# Altium footprint library 2020-06-19_14-54-17.PcbLib: 3 footprints
Each footprint in its own frame and in the unit in brackets; x right, y up, seen from the top. Pads: shape width x height; smd on the part's side, far side on the other; paste and mask are expansions set on the pad; w line width, h text height; cw(c..) or ccw(c..) is an arc to the next point about the centre after c.
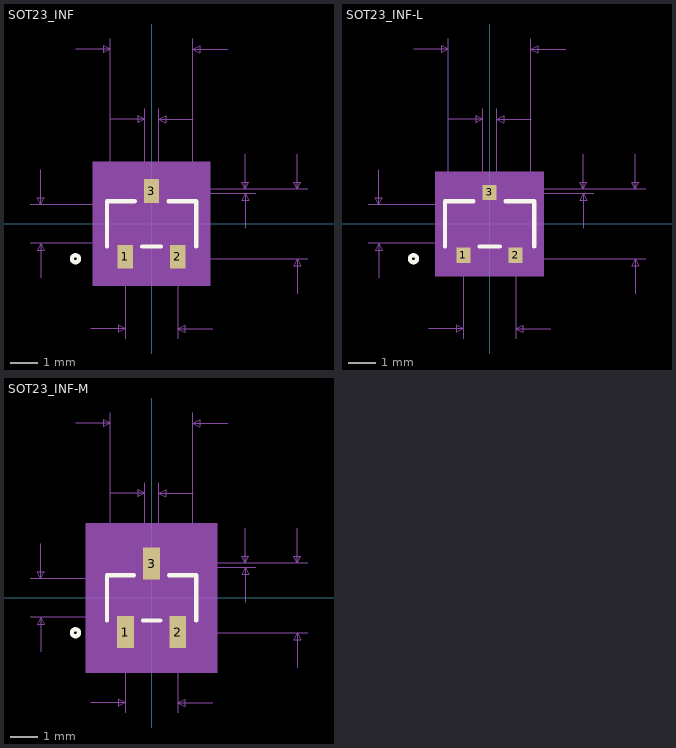
[diagram p0: the footprints below, top view; thin cyan lines are the x and y axes]

## SOT23_INF [mil]
pads (3):
  rect 22x34 smd paste+0 mask+0: 1(-37.5,-47) 2(37.5,-47) 3(0,47)
Top Overlay:
  circle w6: c-109,-50 r5
  lines w6: -64,-32.5 -64,32.5 -24.1,32.5 ; -13.4,-32.5 13.4,-32.5 ; 24.1,32.5 64,32.5 64,-32.5
Mechanical 5:
  region: -84,89 84,89 84,-89 -84,-89
Mechanical 7:
  lines w1: -174,-27.5 0,-27.5 ; -174,27.5 0,27.5 ; -159,-77.5 -159,-27.5 ; -159,77.5 -159,27.5 ; -109,250 -59,250 ; -87.5,-150 -37.5,-150 ; -60,150 -10,150 ; -59,27.5 -59,265 ; -37.5,-165 -37.5,-50 ; -10,50 -10,165 ; 0,-50 224,-50 ; 0,44 149,44 ; 10,50 10,165 ; 37.5,-165 37.5,-50 ; 59,27.5 59,265 ; 60,150 10,150 ; 87.5,-150 37.5,-150 ; 109,250 59,250 ; 134,-6 134,44 ; 134,100 134,50 ; 149,50 0,50 224,50 ; 209,-100 209,-50 ; 209,100 209,50 ; -159,-27.5 -164,-37.5 -154,-37.5 -159,-27.5 ; -159,27.5 -164,37.5 -154,37.5 -159,27.5 ; -59,250 -69,255 -69,245 -59,250 ; -37.5,-150 -47.5,-145 -47.5,-155 -37.5,-150 ; -10,150 -20,155 -20,145 -10,150 ; 10,150 20,155 20,145 10,150 ; 37.5,-150 47.5,-145 47.5,-155 37.5,-150 ; 59,250 69,255 69,245 59,250 ; 134,44 129,34 139,34 134,44 ; 134,50 129,60 139,60 134,50 ; 209,-50 204,-60 214,-60 209,-50 ; 209,50 204,60 214,60 209,50
  text "Top Padstyle: RX22Y34D0T" at -300,-314 h50
  text "Bottom Padstyle: RX22Y34D0T" at -337.5,-389 h50
  text "Alt 1 Padstyle: OX60Y90D30P" at -337.5,-464 h50
  text "Alt 2 Padstyle: OX90Y60D30P" at -337.5,-539 h50
  text "0.1in/2.54mm" at 229,-12.5 h25
  text "0.006in/0.152mm" at 154,34.5 h25
  text "0.075in/1.905mm" at -93.75,-195 h25
  text "0.02in/0.508mm" at -87.5,170 h25
  text "0.118in/2.997mm" at -93.75,270 h25
  text "0.055in/1.397mm" at -366.5,-12.5 h25
Mechanical 13:
  circle w0: c-49,-17.5 r5
  lines w1: -59,-27.5 59,-27.5 59,27.5 -59,27.5 -59,-27.5 ; -47.5,-50 -47.5,-27.5 -27.5,-27.5 -27.5,-50 -47.5,-50 ; -10,27.5 10,27.5 10,50 -10,50 -10,27.5 ; 27.5,-50 27.5,-27.5 47.5,-27.5 47.5,-50 27.5,-50
Mechanical 15:
  region: -69,-37.5 -69,37.5 -21,37.5 -21,74 21,74 21,37.5 69,37.5 69,-37.5 58.5,-37.5 58.5,-74 -58.5,-74 -58.5,-37.5
  region: 59,-27.5 -59,-27.5 -59,27.5 59,27.5
  lines w6: -69,-37.5 -69,37.5 -21,37.5 -21,74 21,74 21,37.5 69,37.5 69,-37.5 58.5,-37.5 58.5,-74 -58.5,-74 -58.5,-37.5 -69,-37.5
3D body: height 10, standoff 0, extent 0,0 10,10

## SOT23_INF-L [mil]
pads (3):
  rect 20x22 smd paste+0 mask+0: 1(-37.5,-45) 2(37.5,-45) 3(0,45)
Top Overlay:
  circle w6: c-109,-50 r5
  lines w6: -64,-32.5 -64,32.5 -23.01,32.5 ; -14.49,-32.5 14.49,-32.5 ; 23.01,32.5 64,32.5 64,-32.5
Mechanical 5:
  region: -78,75 78,75 78,-75 -78,-75
Mechanical 7:
  lines w1: -174,-27.5 0,-27.5 ; -174,27.5 0,27.5 ; -159,-77.5 -159,-27.5 ; -159,77.5 -159,27.5 ; -109,250 -59,250 ; -87.5,-150 -37.5,-150 ; -60,150 -10,150 ; -59,27.5 -59,265 ; -37.5,-165 -37.5,-50 ; -10,50 -10,165 ; 0,-50 224,-50 ; 0,44 149,44 ; 10,50 10,165 ; 37.5,-165 37.5,-50 ; 59,27.5 59,265 ; 60,150 10,150 ; 87.5,-150 37.5,-150 ; 109,250 59,250 ; 134,-6 134,44 ; 134,100 134,50 ; 149,50 0,50 224,50 ; 209,-100 209,-50 ; 209,100 209,50 ; -159,-27.5 -164,-37.5 -154,-37.5 -159,-27.5 ; -159,27.5 -164,37.5 -154,37.5 -159,27.5 ; -59,250 -69,255 -69,245 -59,250 ; -37.5,-150 -47.5,-145 -47.5,-155 -37.5,-150 ; -10,150 -20,155 -20,145 -10,150 ; 10,150 20,155 20,145 10,150 ; 37.5,-150 47.5,-145 47.5,-155 37.5,-150 ; 59,250 69,255 69,245 59,250 ; 134,44 129,34 139,34 134,44 ; 134,50 129,60 139,60 134,50 ; 209,-50 204,-60 214,-60 209,-50 ; 209,50 204,60 214,60 209,50
  text "Top Padstyle: RX20Y22D0T" at -300,-306 h50
  text "Bottom Padstyle: RX20Y22D0T" at -337.5,-381 h50
  text "Alt 1 Padstyle: OX60Y90D30P" at -337.5,-456 h50
  text "Alt 2 Padstyle: OX90Y60D30P" at -337.5,-531 h50
  text "0.1in/2.54mm" at 229,-12.5 h25
  text "0.006in/0.152mm" at 154,34.5 h25
  text "0.075in/1.905mm" at -93.75,-195 h25
  text "0.02in/0.508mm" at -87.5,170 h25
  text "0.118in/2.997mm" at -93.75,270 h25
  text "0.055in/1.397mm" at -366.5,-12.5 h25
Mechanical 13:
  circle w0: c-49,-17.5 r5
  lines w1: -59,-27.5 59,-27.5 59,27.5 -59,27.5 -59,-27.5 ; -47.5,-50 -47.5,-27.5 -27.5,-27.5 -27.5,-50 -47.5,-50 ; -10,27.5 10,27.5 10,50 -10,50 -10,27.5 ; 27.5,-50 27.5,-27.5 47.5,-27.5 47.5,-50 27.5,-50
Mechanical 15:
  region: -63,-31.5 -63,31.5 -14,31.5 -14,60 14,60 14,31.5 63,31.5 63,-31.5 51.5,-31.5 51.5,-60 -51.5,-60 -51.5,-31.5
  region: 59,-27.5 -59,-27.5 -59,27.5 59,27.5
  lines w6: -63,-31.5 -63,31.5 -14,31.5 -14,60 14,60 14,31.5 63,31.5 63,-31.5 51.5,-31.5 51.5,-60 -51.5,-60 -51.5,-31.5 -63,-31.5
3D body: height 10, standoff 0, extent 0,0 10,10

## SOT23_INF-M [mil]
pads (3):
  rect 24x46 smd paste+0 mask+0: 1(-37.5,-49) 2(37.5,-49) 3(0,49)
Top Overlay:
  circle w6: c-109,-50 r5
  lines w6: -64,-32.5 -64,32.5 -25.1,32.5 ; -12.4,-32.5 12.4,-32.5 ; 25.1,32.5 64,32.5 64,-32.5
Mechanical 5:
  region: -94,107 94,107 94,-107 -94,-107
Mechanical 7:
  lines w1: -174,-27.5 0,-27.5 ; -174,27.5 0,27.5 ; -159,-77.5 -159,-27.5 ; -159,77.5 -159,27.5 ; -109,250 -59,250 ; -87.5,-150 -37.5,-150 ; -60,150 -10,150 ; -59,27.5 -59,265 ; -37.5,-165 -37.5,-50 ; -10,50 -10,165 ; 0,-50 224,-50 ; 0,44 149,44 ; 10,50 10,165 ; 37.5,-165 37.5,-50 ; 59,27.5 59,265 ; 60,150 10,150 ; 87.5,-150 37.5,-150 ; 109,250 59,250 ; 134,-6 134,44 ; 134,100 134,50 ; 149,50 0,50 224,50 ; 209,-100 209,-50 ; 209,100 209,50 ; -159,-27.5 -164,-37.5 -154,-37.5 -159,-27.5 ; -159,27.5 -164,37.5 -154,37.5 -159,27.5 ; -59,250 -69,255 -69,245 -59,250 ; -37.5,-150 -47.5,-145 -47.5,-155 -37.5,-150 ; -10,150 -20,155 -20,145 -10,150 ; 10,150 20,155 20,145 10,150 ; 37.5,-150 47.5,-145 47.5,-155 37.5,-150 ; 59,250 69,255 69,245 59,250 ; 134,44 129,34 139,34 134,44 ; 134,50 129,60 139,60 134,50 ; 209,-50 204,-60 214,-60 209,-50 ; 209,50 204,60 214,60 209,50
  text "Top Padstyle: RX24Y46D0T" at -300,-322 h50
  text "Bottom Padstyle: RX24Y46D0T" at -337.5,-397 h50
  text "Alt 1 Padstyle: OX60Y90D30P" at -337.5,-472 h50
  text "Alt 2 Padstyle: OX90Y60D30P" at -337.5,-547 h50
  text "0.1in/2.54mm" at 229,-12.5 h25
  text "0.006in/0.152mm" at 154,34.5 h25
  text "0.075in/1.905mm" at -93.75,-195 h25
  text "0.02in/0.508mm" at -87.5,170 h25
  text "0.118in/2.997mm" at -93.75,270 h25
  text "0.055in/1.397mm" at -366.5,-12.5 h25
Mechanical 13:
  circle w0: c-49,-17.5 r5
  lines w1: -59,-27.5 59,-27.5 59,27.5 -59,27.5 -59,-27.5 ; -47.5,-50 -47.5,-27.5 -27.5,-27.5 -27.5,-50 -47.5,-50 ; -10,27.5 10,27.5 10,50 -10,50 -10,27.5 ; 27.5,-50 27.5,-27.5 47.5,-27.5 47.5,-50 27.5,-50
Mechanical 15:
  region: -79,-47.5 -79,47.5 -32,47.5 -32,92 32,92 32,47.5 79,47.5 79,-47.5 69.5,-47.5 69.5,-92 -69.5,-92 -69.5,-47.5
  region: 59,-27.5 -59,-27.5 -59,27.5 59,27.5
  lines w6: -79,-47.5 -79,47.5 -32,47.5 -32,92 32,92 32,47.5 79,47.5 79,-47.5 69.5,-47.5 69.5,-92 -69.5,-92 -69.5,-47.5 -79,-47.5
3D body: height 10, standoff 0, extent 0,0 10,10